# EAGLE library part SD (library NA-2025)
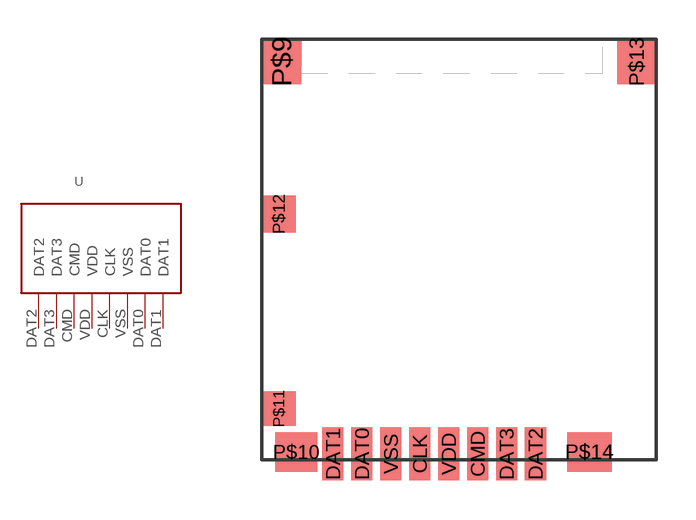
[diagram p15: symbol with the pads of SD; footprint SD]

Designator prefix -

## SD  [SD]
CLK  CLK
CMD  CMD
DAT0  DAT0
DAT1  DAT1
DAT2  DAT2
DAT3  DAT3
VDD  VDD
VSS  VSS

## Footprint SD (pad centres in mm)
smd 0.8 x 2: CLK 6,-15.77; CMD 8.2,-15.77; DAT0 3.8,-15.77; DAT1 2.7,-15.77; DAT2 10.4,-15.77; DAT3 9.3,-15.77; VDD 7.1,-15.77; VSS 4.9,-15.77
smd 1.5 x 1.7: P$9 0.75,-0.85; P$13 14.25,-0.85
smd 1.6 x 1.5: P$10 1.3,-15.7
smd 1.29 x 1.3: P$11 0.645,-14.05
smd 1.29 x 1.4: P$12 0.645,-6.65
smd 1.7 x 1.5: P$14 12.45,-15.7